# Altium footprint library display-kingbright.PCBLIB: 10 footprints
Each footprint in its own frame and in the unit in brackets; x right, y up, seen from the top. Pads: shape width x height; smd on the part's side, far side on the other; paste and mask are expansions set on the pad; w line width, h text height; cw(c..) or ccw(c..) is an arc to the next point about the centre after c.
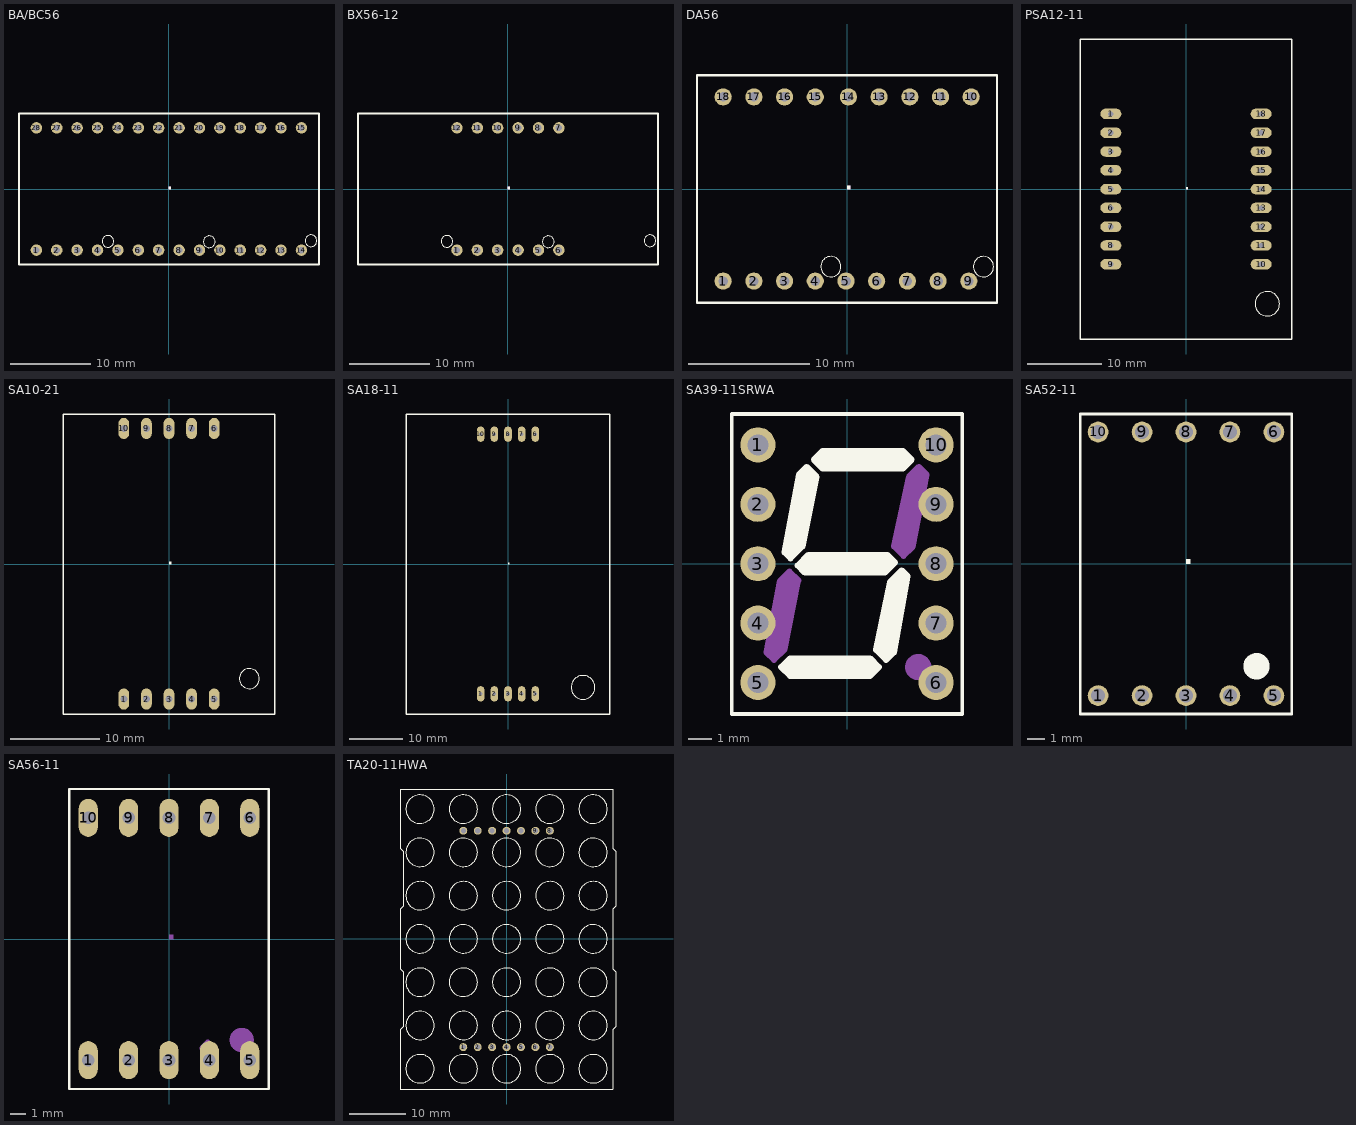
[diagram p0: the footprints below, top view; thin cyan lines are the x and y axes]

## BA/BC56 [mil]
pads (28):
  round 56 hole 31.5: 1(-650,-300) 2(-550,-300) 3(-450,-300) 4(-350,-300) 5(-250,-300) 6(-150,-300) 7(-50,-300) 8(50,-300) 9(150,-300) 10(250,-300) 11(350,-300) 12(450,-300) 13(550,-300) 14(650,-300) 15(650,300) 16(550,300) 17(450,300) 18(350,300) 19(250,300) 20(150,300) 21(50,300) 22(-50,300) 23(-150,300) 24(-250,300) 25(-350,300) 26(-450,300) 27(-550,300) 28(-650,300)
Top Overlay:
  circle w0: c-299.28,-256.82 r28.76
  circle w0: c197.77,-258.78 r28.76
  circle w0: c696.78,-253.86 r28.76
  region: 0,0 10,0 10,10 0,10
  region: 0,0 10,0 10,10 0,10
  region: 0,0 10,0 10,10 0,10
  lines w8: -735.24,-370.08 736.22,-370.08 736.22,370.08 -735.24,370.08 -735.24,-370.08
Mechanical 16:
  region: 0,0 10,0 10,10 0,10
  region: 0,0 10,0 10,10 0,10
  region: 0,0 10,0 10,10 0,10
  region: 0,0 10,0 10,10 0,10
  region: 0,0 10,0 10,10 0,10
  region: 0,0 10,0 10,10 0,10
  region: 0,0 10,0 10,10 0,10
  region: 0,0 10,0 10,10 0,10
  region: 0,0 10,0 10,10 0,10
  region: 0,0 10,0 10,10 0,10
  region: 0,0 10,0 10,10 0,10
  region: 0,0 10,0 10,10 0,10
  region: 0,0 10,0 10,10 0,10
  region: 0,0 10,0 10,10 0,10
  region: 0,0 10,0 10,10 0,10
  region: 0,0 10,0 10,10 0,10
  region: 0,0 10,0 10,10 0,10
  region: 0,0 10,0 10,10 0,10

## BX56-12 [mil]
pads (12):
  round 56 hole 31.5: 1(-250,-300) 2(-150,-300) 3(-50,-300) 4(50,-300) 5(150,-300) 6(250,-300) 7(250,300) 8(150,300) 9(50,300) 10(-50,300) 11(-150,300) 12(-250,300)
Top Overlay:
  circle w0: c-299.28,-256.82 r28.76
  circle w0: c197.77,-258.78 r28.76
  circle w0: c696.78,-253.86 r28.76
  region: 0,0 10,0 10,10 0,10
  region: 0,0 10,0 10,10 0,10
  region: 0,0 10,0 10,10 0,10
  region: 0,0 10,0 10,10 0,10
  region: 0,0 10,0 10,10 0,10
  region: 0,0 10,0 10,10 0,10
  region: 0,0 10,0 10,10 0,10
  region: 0,0 10,0 10,10 0,10
  region: 0,0 10,0 10,10 0,10
  region: 0,0 10,0 10,10 0,10
  region: 0,0 10,0 10,10 0,10
  region: 0,0 10,0 10,10 0,10
  region: 0,0 10,0 10,10 0,10
  region: 0,0 10,0 10,10 0,10
  region: 0,0 10,0 10,10 0,10
  lines w8: -735.24,-370.08 736.22,-370.08 736.22,370.08 -735.24,370.08 -735.24,-370.08
Mechanical 16:
  region: 0,0 10,0 10,10 0,10
  region: 0,0 10,0 10,10 0,10
  region: 0,0 10,0 10,10 0,10
  region: 0,0 10,0 10,10 0,10
  region: 0,0 10,0 10,10 0,10
  region: 0,0 10,0 10,10 0,10

## DA56 [mil]
pads (18):
  round 56 hole 31.5: 1(-403.94,-300) 2(-303.94,-300) 3(-203.94,-300) 4(-103.94,-300) 5(-3.94,-300) 6(96.06,-300) 7(196.06,-300) 8(296.06,-300) 9(396.06,-300) 10(403.94,300) 11(303.94,300) 12(203.94,300) 13(103.94,300) 14(3.94,300) 15(-103.94,300) 16(-203.94,300) 17(-303.94,300) 18(-403.94,300)
Top Overlay:
  circle w0: c-53.22,-252.88 r33.07
  circle w0: c443.83,-252.88 r33.07
  region: 0,0 10,0 10,10 0,10
  region: 0,0 10,0 10,10 0,10
  lines w8: -489.17,-370.08 487.99,-370.08 487.99,370.08 -489.17,370.08 -489.17,-370.08
Mechanical 16:
  region: 0,0 10,0 10,10 0,10
  region: 0,0 10,0 10,10 0,10
  region: 0,0 10,0 10,10 0,10
  region: 0,0 10,0 10,10 0,10
  region: 0,0 10,0 10,10 0,10
  region: 0,0 10,0 10,10 0,10
  region: 0,0 10,0 10,10 0,10
  region: 0,0 10,0 10,10 0,10
  region: 0,0 10,0 10,10 0,10
  region: 0,0 10,0 10,10 0,10
  region: 0,0 10,0 10,10 0,10
  region: 0,0 10,0 10,10 0,10

## PSA12-11 [mil]
pads (18):
  oval 112x56 hole 27.56: 1(-400,400) 2(-400,300) 3(-400,200) 4(-400,100) 5(-400,0) 6(-400,-100) 7(-400,-200) 8(-400,-300) 9(-400,-400) 10(400,-400) 11(400,-300) 12(400,-200) 13(400,-100) 14(400,0) 15(400,100) 16(400,200) 17(400,300) 18(400,400)
Top Overlay:
  circle w0: c433.07,-610.24 r64.96
  region: 0,0 10,0 10,10 0,10
  region: 0,0 10,0 10,10 0,10
  region: 0,0 10,0 10,10 0,10
  region: 0,0 10,0 10,10 0,10
  region: 0,0 10,0 10,10 0,10
  region: 0,0 10,0 10,10 0,10
  region: 0,0 10,0 10,10 0,10
  region: 0,0 10,0 10,10 0,10
  region: 0,0 10,0 10,10 0,10
  region: 0,0 10,0 10,10 0,10
  region: 0,0 10,0 10,10 0,10
  region: 0,0 10,0 10,10 0,10
  lines w7.2: -563.29,-797.67 563.29,-797.67 563.29,798.85 -563.29,798.85 -563.29,-797.67
Mechanical 16:
  region: 0,0 10,0 10,10 0,10
  region: 0,0 10,0 10,10 0,10
  region: 0,0 10,0 10,10 0,10
  region: 0,0 10,0 10,10 0,10

## SA10-21 [mil]
pads (10):
  oval 47.25x94.5 hole 31.5: 1(-200,-598.43) 2(-100,-598.43) 3(0,-598.43) 4(100,-598.43) 5(200,-598.43) 6(200,601.57) 7(100,601.57) 8(0,601.57) 9(-100,601.57) 10(-200,601.57)
Top Overlay:
  circle w0: c356.3,-507.87 r44.29
  region: 0,0 10,0 10,10 0,10
  region: 0,0 10,0 10,10 0,10
  region: 0,0 10,0 10,10 0,10
  region: 0,0 10,0 10,10 0,10
  region: 0,0 10,0 10,10 0,10
  region: 0,0 10,0 10,10 0,10
  region: 0,0 10,0 10,10 0,10
  lines w6: -469.41,-664.72 469.41,-664.72 469.41,665.71 -469.41,665.71 -469.41,-664.72

## SA18-11 [mil]
pads (10):
  oval 56x112 hole 27.56: 1(-200,-950) 2(-100,-950) 3(0,-950) 4(100,-950) 5(200,-950) 6(200,950) 7(100,950) 8(0,950) 9(-100,950) 10(-200,950)
Top Overlay:
  circle w0: c549.07,-902.37 r86.75
  region: 0,0 10,0 10,10 0,10
  region: 0,0 10,0 10,10 0,10
  region: 0,0 10,0 10,10 0,10
  region: 0,0 10,0 10,10 0,10
  region: 0,0 10,0 10,10 0,10
  region: 0,0 10,0 10,10 0,10
  region: 0,0 10,0 10,10 0,10
  lines w9.83: -743.11,-1097.44 743.11,-1097.44 743.11,1097.44 -743.11,1097.44 -743.11,-1097.44

## SA39-11SRWA [mil]
pads (10):
  round 59.06 hole 35.43: 1(-150,200) 2(-150,100) 3(-150,0) 4(-150,-100) 5(-150,-200) 6(150,-200) 7(150,-100) 8(150,0) 9(150,100) 10(150,200)
Top Overlay:
  lines w6: -194.02,-253.03 194.02,-253.03 194.02,252.05 -194.02,252.05 -194.02,-253.03
  lines w10: -111,-174.17 -96,-159.17 39,-159.17 54,-174.17 39,-189.17 -96,-189.17 -111,-174.17 ; -105,19 -95,9 -75,29 -51.02,146.16 -68.02,163.16 -81.02,150.16 -105,19 ; -83,-3 -65,15 68,15 81,2 64,-15 -71,-15 -83,-3 ; -56.02,175.16 -41.02,160.16 93.98,160.16 108.98,175.16 93.98,190.16 -41.02,190.16 -56.02,175.16 ; 49,-145.17 72,-31 92,-11 102,-21 79,-149.17 66,-162.17 49,-145.17
  lines w24: -95,-174.17 40,-174.17 ; -90.98,25.98 -66.06,146.14 ; -70,0 65,0 ; -39.02,175.16 95.98,175.16 ; 65,-144.17 90,-25
Mechanical 16:
  circle w24: c120,-174.17 r10
  lines w10: -136,-149.17 -113,-29 -97,-13 -82,-28 -105,-144.17 -123,-162.17 -136,-149.17 ; 79,29 103.98,146.16 120.98,163.16 133.98,150.16 110,28 95,13 79,29
  lines w12: 115,-174.17 125,-174.17
  lines w24: -120,-144.17 -95,-25 ; 95,30 120.98,150.16

## SA52-11 [mil]
pads (10):
  round 47.25 hole 31.5: 1(-200,-300) 2(-100,-300) 3(0,-300) 4(100,-300) 5(200,-300) 6(200,300) 7(100,300) 8(0,300) 9(-100,300) 10(-200,300)
Top Overlay:
  circle w30: c160.32,-233.27 r15
  region: 0,0 10,0 10,10 0,10
  region: 0,0 10,0 10,10 0,10
  region: 0,0 10,0 10,10 0,10
  region: 0,0 10,0 10,10 0,10
  region: 0,0 10,0 10,10 0,10
  region: 0,0 10,0 10,10 0,10
  region: 0,0 10,0 10,10 0,10
  lines w6: -241.06,-341.89 -241.06,340.91 241.06,340.91 241.06,-341.89 -241.06,-341.89

## SA56-11 [mil]
pads (10):
  oval 47.25x94.5 hole 31.5: 1(-200,-300) 2(-100,-300) 3(0,-300) 4(100,-300) 5(200,-300) 6(200,300) 7(100,300) 8(0,300) 9(-100,300) 10(-200,300)
Top Overlay:
  lines w6: -246.97,-371.42 -246.97,371.42 246.97,371.42 246.97,-371.42 -246.97,-371.42
Mechanical 16:
  circle w30: c180,-250 r15
  region: 0,0 10,0 10,10 0,10
  region: 0,0 10,0 10,10 0,10
  region: 0,0 10,0 10,10 0,10
  region: 0,0 10,0 10,10 0,10
  region: 0,0 10,0 10,10 0,10
  region: 0,0 10,0 10,10 0,10
  region: 0,0 10,0 10,10 0,10
  lines w16: 82.95,-270.32 95.95,-257.32

## TA20-11HWA [mil]
pads (14):
  round 55.12 hole 35.43: 1(-300,-750) 2(-200,-750) 3(-100,-750) 4(0,-750) 5(100,-750) 6(200,-750) 7(300,-750) 8(300,750) 9(200,750) 10(100,750) 11(0,750) 12(-100,750) 13(-200,750) 14(-300,750)
Top Overlay:
  circle w0: c0,0 r98.44
  circle w0: c0,300 r98.44
  circle w0: c0,600 r98.44
  circle w0: c0,900 r98.44
  circle w0: c0,-300 r98.44
  circle w0: c0,-600 r98.44
  circle w0: c0,-900 r98.44
  circle w0: c-300,0 r98.44
  circle w0: c-300,300 r98.44
  circle w0: c-300,600 r98.44
  circle w0: c-300,900 r98.44
  circle w0: c-300,-300 r98.44
  circle w0: c-300,-600 r98.44
  circle w0: c-300,-900 r98.44
  circle w0: c-600,0 r98.44
  circle w0: c-600,300 r98.44
  circle w0: c-600,600 r98.44
  circle w0: c-600,900 r98.44
  circle w0: c-600,-300 r98.44
  circle w0: c-600,-600 r98.44
  circle w0: c-600,-900 r98.44
  circle w0: c300,0 r98.44
  circle w0: c300,300 r98.44
  circle w0: c300,600 r98.44
  circle w0: c300,900 r98.44
  circle w0: c300,-300 r98.44
  circle w0: c300,-600 r98.44
  circle w0: c300,-900 r98.44
  circle w0: c600,0 r98.44
  circle w0: c600,300 r98.44
  circle w0: c600,600 r98.44
  circle w0: c600,900 r98.44
  circle w0: c600,-300 r98.44
  circle w0: c600,-600 r98.44
  circle w0: c600,-900 r98.44
  lines w8: -738.19,-1040.35 -738.19,-628.94 -717.52,-608.27 -717.52,-227.36 -738.19,-206.69 -738.19,204.72 -717.52,225.39 -717.52,607.28 -738.19,627.95 -738.19,1039.37 737.2,1039.37 737.2,627.95 757.87,607.28 757.87,225.39 737.2,204.72 737.2,-206.69 757.87,-227.36 757.87,-608.27 737.2,-628.94 737.2,-1040.35 -738.19,-1040.35